# Altium integrated library TI Amplifiers and Linear Difference Amplifier.IntLib: 154 symbols (part 2 of 5)
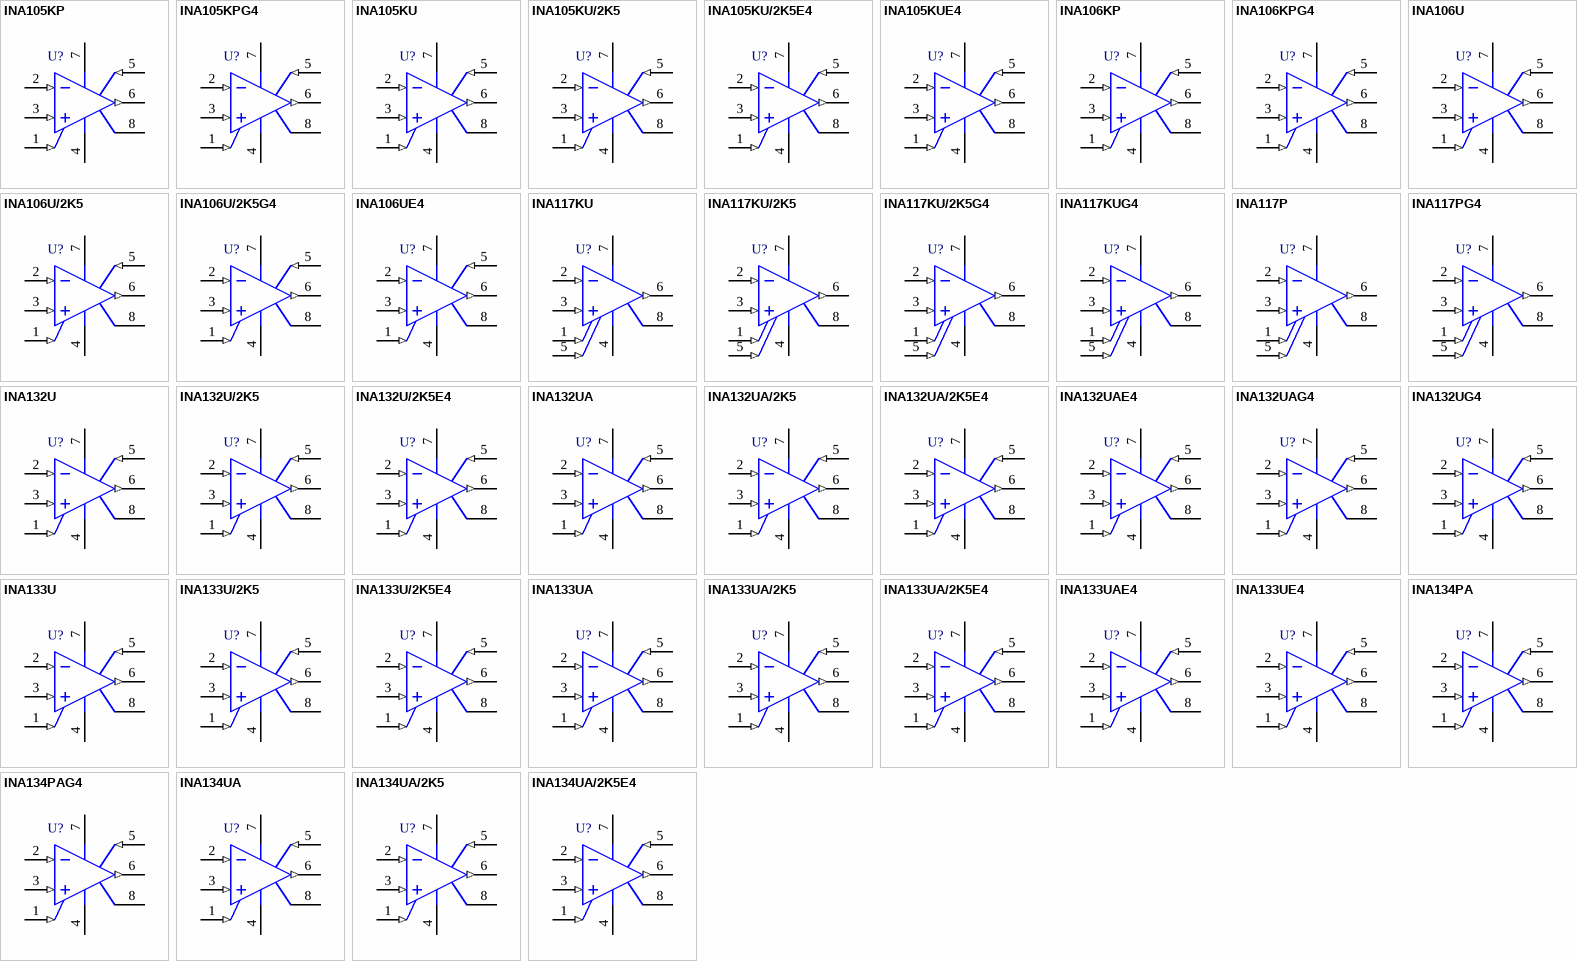
[diagram p6: symbols INA105KP to INA134UA/2K5E4]

## INA133UE4
designator U?
High-Speed, Precision Difference Amplifier, -40 to 85 degC, 8-pin SOIC (D8), Green (RoHS & no Sb/Br); Manufacturer: Texas Instruments; PartNumber: INA133UE4; CMRR(Min)(dB): 80; Gain(V/V): 1; Input Offset (+/-)(Max)(uV): 450; Slew Rate(Typ)(V/us): 5; Vs(Max)(V): 36; DatasheetVersion: SBOS115; PackageVersion: 4040047-3/M, 06/2011; PackageReference: D8; PackageDescription: 8-Pin Plastic Small Outline, Body 4.9 x 3.9 mm, Pitch 1.27 mm; Supplier 1: Digi-Key; Supplier Part Number 1: INA133UE4-ND; Supplier 2: Mouser; Supplier Part Number 2: 595-INA133UE4; Eco-Plan: Green (RoHS & no Sb/Br); Number of Channels: 1; SubFamily: Difference Amplifier; Vs(Min)(V): 5; Mounting Technology: Surface Mount; Code_JEDEC: MS-012; ComponentLink1Description: Manufacturer URL; ComponentLink1URL: http://www.ti.com/; ComponentLink2Description: Datasheet; ComponentLink2URL: http://www.ti.com/general/docs/lit/getliterature.tsp?genericPartNumber=INA133&fileType=pdf; ComponentLink3Description: Package Specification; ComponentLink3URL: http://www.ti.com/litv/pdf/msoi002j
footprint TI-D8_N (SOIC, 8-Leads, Body 5x4mm, Pitch 1.27mm, IPC Medium Density)
footprint TI-D8_L (SOIC, 8-Leads, Body 5x4mm, Pitch 1.27mm, IPC High Density)
footprint TI-D8_M (SOIC, 8-Leads, Body 5x4mm, Pitch 1.27mm, IPC Low Density)
pins: 1 REF (in), 2 IN- (in), 3 IN+ (in), 4 V- (power), 5 SENSE (in), 6 OUT (out), 7 V+ (power), 8 NC

## INA134PA
designator U?
Audio Differential Line Receiver, 0 dB (G=1), -40 to 85 degC, 8-pin DIP (P8), Green (RoHS & no Sb/Br); Manufacturer: Texas Instruments; PartNumber: INA134PA; CMRR(Min)(dB): 74; Gain(V/V): 1; Input Offset (+/-)(Max)(uV): 1000; Slew Rate(Typ)(V/us): 14; SubFamily: Difference Amplifier; Vs(Max)(V): 36; Vs(Min)(V): 8; DatasheetVersion: SBOS071; PackageVersion: 4040082/E, 04/2010; PackageReference: P8; PackageDescription: 8-Pin Plastic In-Line, Body 9.59 x 6.35 mm, Pitch 2.54 mm; Supplier 1: Digi-Key; Supplier Part Number 1: INA134PA-ND; Supplier 2: Farnell; Supplier Part Number 2: 1097403; Supplier 3: Newark; Supplier Part Number 3: 88K1115; Supplier 4: Mouser; Supplier Part Number 4: 595-INA134PA; Eco-Plan: Green (RoHS & no Sb/Br); Number of Channels: 1; Mounting Technology: Through Hole; Code_JEDEC: MS-001; ComponentLink1Description: Manufacturer URL; ComponentLink1URL: http://www.ti.com/; ComponentLink2Description: Datasheet; ComponentLink2URL: http://www.ti.com/general/docs/lit/getliterature.tsp?genericPartNumber=INA134&fileType=pdf; ComponentLink3Description: Package Specification; ComponentLink3URL: http://www.ti.com/litv/pdf/mpdi001b
footprint TI-P8 (DIP, 8-Leads, Body 10.15x6.6mm, Pitch 2.54mm)
pins: 1 REF (in), 2 IN- (in), 3 IN+ (in), 4 V- (power), 5 SENSE (in), 6 OUT (out), 7 V+ (power), 8 NC

## INA134PAG4
designator U?
Audio Differential Line Receiver, 0 dB (G=1), -40 to 85 degC, 8-pin DIP (P8), Green (RoHS & no Sb/Br); Manufacturer: Texas Instruments; PartNumber: INA134PAG4; CMRR(Min)(dB): 74; Gain(V/V): 1; Input Offset (+/-)(Max)(uV): 1000; Slew Rate(Typ)(V/us): 14; SubFamily: Difference Amplifier; Vs(Max)(V): 36; Vs(Min)(V): 8; DatasheetVersion: SBOS071; PackageVersion: 4040082/E, 04/2010; PackageReference: P8; PackageDescription: 8-Pin Plastic In-Line, Body 9.59 x 6.35 mm, Pitch 2.54 mm; Supplier 1: Digi-Key; Supplier Part Number 1: INA134PAG4-ND; Supplier 2: Newark; Supplier Part Number 2: 85K0892; Supplier 3: Mouser; Supplier Part Number 3: 595-INA134PAG4; Eco-Plan: Green (RoHS & no Sb/Br); Number of Channels: 1; Mounting Technology: Through Hole; Code_JEDEC: MS-001; ComponentLink1Description: Manufacturer URL; ComponentLink1URL: http://www.ti.com/; ComponentLink2Description: Datasheet; ComponentLink2URL: http://www.ti.com/general/docs/lit/getliterature.tsp?genericPartNumber=INA134&fileType=pdf; ComponentLink3Description: Package Specification; ComponentLink3URL: http://www.ti.com/litv/pdf/mpdi001b
footprint TI-P8 (DIP, 8-Leads, Body 10.15x6.6mm, Pitch 2.54mm)
pins: 1 REF (in), 2 IN- (in), 3 IN+ (in), 4 V- (power), 5 SENSE (in), 6 OUT (out), 7 V+ (power), 8 NC

## INA134UA
designator U?
Audio Differential Line Receiver, 0 dB (G=1), -40 to 85 degC, 8-pin SOIC (D8), Green (RoHS & no Sb/Br); Manufacturer: Texas Instruments; PartNumber: INA134UA; CMRR(Min)(dB): 74; Gain(V/V): 1; Input Offset (+/-)(Max)(uV): 1000; Slew Rate(Typ)(V/us): 14; SubFamily: Difference Amplifier; Vs(Max)(V): 36; Vs(Min)(V): 8; DatasheetVersion: SBOS071; PackageVersion: 4040047-3/M, 06/2011; PackageReference: D8; PackageDescription: 8-Pin Plastic Small Outline, Body 4.9 x 3.9 mm, Pitch 1.27 mm; Supplier 1: Digi-Key; Supplier Part Number 1: INA134UA-ND; Supplier 2: Newark; Supplier Part Number 2: 80K5904; Supplier 3: Mouser; Supplier Part Number 3: 595-INA134UA; Eco-Plan: Green (RoHS & no Sb/Br); Number of Channels: 1; Mounting Technology: Surface Mount; Code_JEDEC: MS-012; ComponentLink1Description: Manufacturer URL; ComponentLink1URL: http://www.ti.com/; ComponentLink2Description: Datasheet; ComponentLink2URL: http://www.ti.com/general/docs/lit/getliterature.tsp?genericPartNumber=INA134&fileType=pdf; ComponentLink3Description: Package Specification; ComponentLink3URL: http://www.ti.com/litv/pdf/msoi002j
footprint TI-D8_N (SOIC, 8-Leads, Body 5x4mm, Pitch 1.27mm, IPC Medium Density)
footprint TI-D8_L (SOIC, 8-Leads, Body 5x4mm, Pitch 1.27mm, IPC High Density)
footprint TI-D8_M (SOIC, 8-Leads, Body 5x4mm, Pitch 1.27mm, IPC Low Density)
pins: 1 REF (in), 2 IN- (in), 3 IN+ (in), 4 V- (power), 5 SENSE (in), 6 OUT (out), 7 V+ (power), 8 NC

## INA134UA/2K5
designator U?
Audio Differential Line Receiver, 0 dB (G=1), -40 to 85 degC, 8-pin SOIC (D8), Green (RoHS & no Sb/Br); Manufacturer: Texas Instruments; PartNumber: INA134UA/2K5; CMRR(Min)(dB): 74; Gain(V/V): 1; Input Offset (+/-)(Max)(uV): 1000; Slew Rate(Typ)(V/us): 14; SubFamily: Difference Amplifier; Vs(Max)(V): 36; Vs(Min)(V): 8; DatasheetVersion: SBOS071; PackageVersion: 4040047-3/M, 06/2011; PackageReference: D8; PackageDescription: 8-Pin Plastic Small Outline, Body 4.9 x 3.9 mm, Pitch 1.27 mm; Supplier 1: Digi-Key; Supplier Part Number 1: INA134UA/2K5-ND; Supplier 2: Newark; Supplier Part Number 2: 74C9796; Supplier 3: Mouser; Supplier Part Number 3: 595-INA134UA/2K5; Eco-Plan: Green (RoHS & no Sb/Br); Number of Channels: 1; Mounting Technology: Surface Mount; Code_JEDEC: MS-012; ComponentLink1Description: Manufacturer URL; ComponentLink1URL: http://www.ti.com/; ComponentLink2Description: Datasheet; ComponentLink2URL: http://www.ti.com/general/docs/lit/getliterature.tsp?genericPartNumber=INA134&fileType=pdf; ComponentLink3Description: Package Specification; ComponentLink3URL: http://www.ti.com/litv/pdf/msoi002j
footprint TI-D8_N (SOIC, 8-Leads, Body 5x4mm, Pitch 1.27mm, IPC Medium Density)
footprint TI-D8_L (SOIC, 8-Leads, Body 5x4mm, Pitch 1.27mm, IPC High Density)
footprint TI-D8_M (SOIC, 8-Leads, Body 5x4mm, Pitch 1.27mm, IPC Low Density)
pins: 1 REF (in), 2 IN- (in), 3 IN+ (in), 4 V- (power), 5 SENSE (in), 6 OUT (out), 7 V+ (power), 8 NC

## INA134UA/2K5E4
designator U?
Audio Differential Line Receiver, 0 dB (G=1), -40 to 85 degC, 8-pin SOIC (D8), Green (RoHS & no Sb/Br); Manufacturer: Texas Instruments; PartNumber: INA134UA/2K5E4; CMRR(Min)(dB): 74; Gain(V/V): 1; Input Offset (+/-)(Max)(uV): 1000; Slew Rate(Typ)(V/us): 14; SubFamily: Difference Amplifier; Vs(Max)(V): 36; Vs(Min)(V): 8; DatasheetVersion: SBOS071; PackageVersion: 4040047-3/M, 06/2011; PackageReference: D8; PackageDescription: 8-Pin Plastic Small Outline, Body 4.9 x 3.9 mm, Pitch 1.27 mm; Supplier 1: Digi-Key; Supplier Part Number 1: INA134UA/2K5E4-ND; Supplier 2: Mouser; Supplier Part Number 2: 595-INA134UA/2K5E4; Eco-Plan: Green (RoHS & no Sb/Br); Number of Channels: 1; Mounting Technology: Surface Mount; Code_JEDEC: MS-012; ComponentLink1Description: Manufacturer URL; ComponentLink1URL: http://www.ti.com/; ComponentLink2Description: Datasheet; ComponentLink2URL: http://www.ti.com/general/docs/lit/getliterature.tsp?genericPartNumber=INA134&fileType=pdf; ComponentLink3Description: Package Specification; ComponentLink3URL: http://www.ti.com/litv/pdf/msoi002j
footprint TI-D8_N (SOIC, 8-Leads, Body 5x4mm, Pitch 1.27mm, IPC Medium Density)
footprint TI-D8_L (SOIC, 8-Leads, Body 5x4mm, Pitch 1.27mm, IPC High Density)
footprint TI-D8_M (SOIC, 8-Leads, Body 5x4mm, Pitch 1.27mm, IPC Low Density)
pins: 1 REF (in), 2 IN- (in), 3 IN+ (in), 4 V- (power), 5 SENSE (in), 6 OUT (out), 7 V+ (power), 8 NC

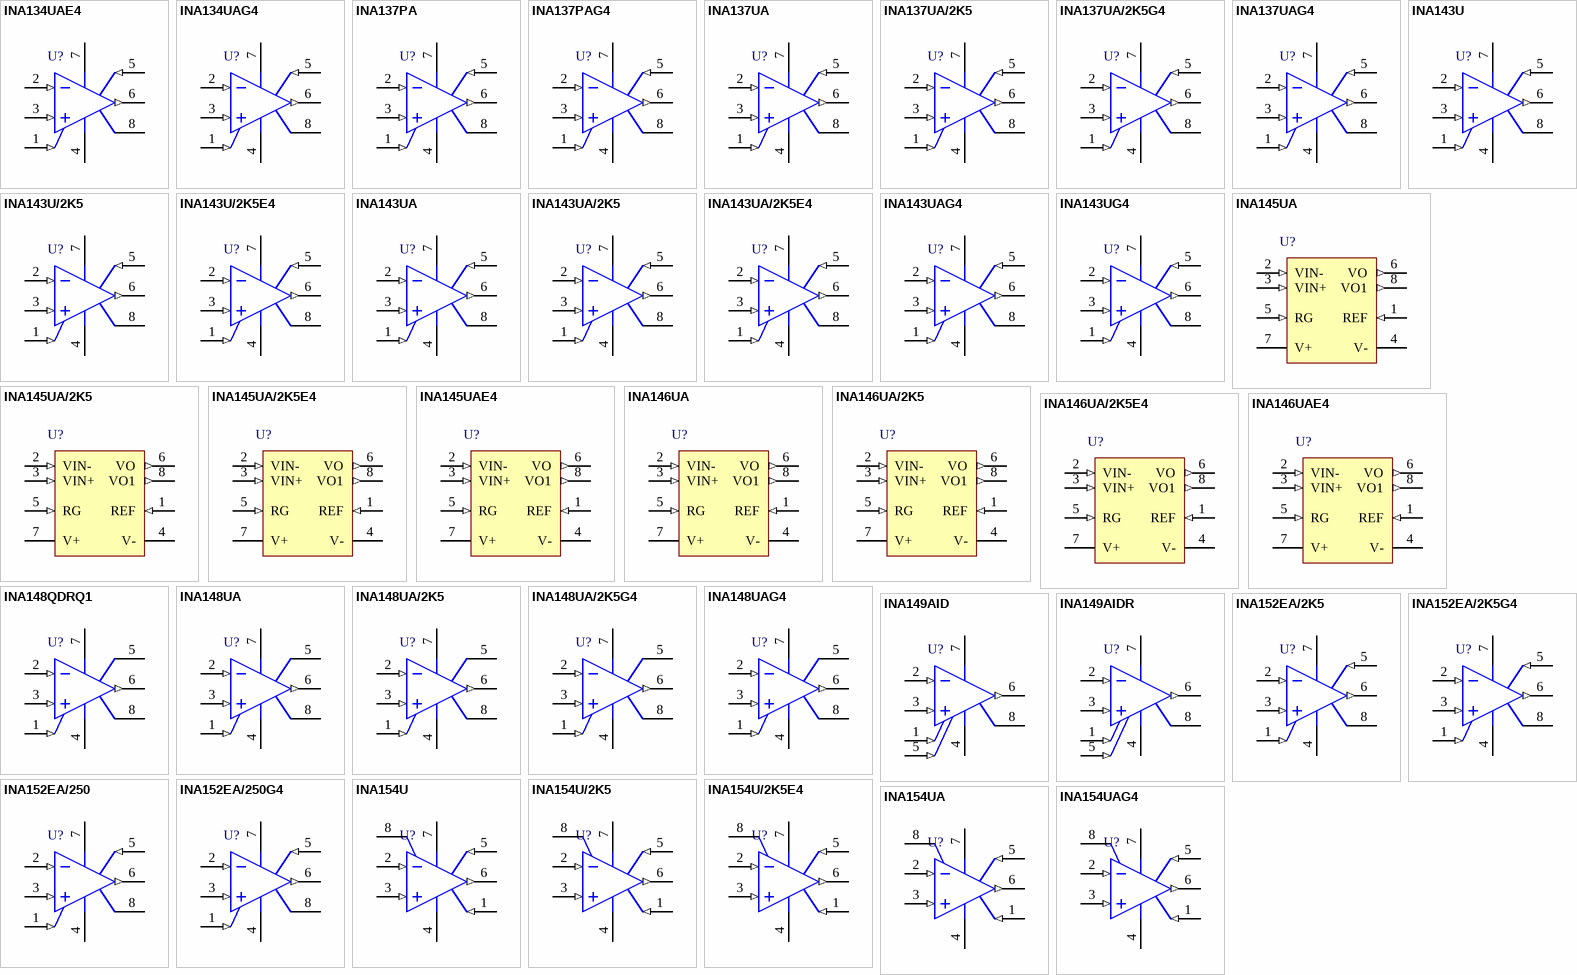
[diagram p1: symbols INA134UAE4 to INA154UAG4]

## INA134UAE4
designator U?
Audio Differential Line Receiver, 0 dB (G=1), -40 to 85 degC, 8-pin SOIC (D8), Green (RoHS & no Sb/Br); Manufacturer: Texas Instruments; PartNumber: INA134UAE4; CMRR(Min)(dB): 74; Gain(V/V): 1; Input Offset (+/-)(Max)(uV): 1000; Slew Rate(Typ)(V/us): 14; SubFamily: Difference Amplifier; Vs(Max)(V): 36; Vs(Min)(V): 8; DatasheetVersion: SBOS071; PackageVersion: 4040047-3/M, 06/2011; PackageReference: D8; PackageDescription: 8-Pin Plastic Small Outline, Body 4.9 x 3.9 mm, Pitch 1.27 mm; Supplier 1: Digi-Key; Supplier Part Number 1: INA134UAE4-ND; Supplier 2: Farnell; Supplier Part Number 2: 1206899; Supplier 3: Newark; Supplier Part Number 3: 97K1923; Supplier 4: Mouser; Supplier Part Number 4: 595-INA134UAE4; Eco-Plan: Green (RoHS & no Sb/Br); Number of Channels: 1; Mounting Technology: Surface Mount; Code_JEDEC: MS-012; ComponentLink1Description: Manufacturer URL; ComponentLink1URL: http://www.ti.com/; ComponentLink2Description: Datasheet; ComponentLink2URL: http://www.ti.com/general/docs/lit/getliterature.tsp?genericPartNumber=INA134&fileType=pdf; ComponentLink3Description: Package Specification; ComponentLink3URL: http://www.ti.com/litv/pdf/msoi002j
footprint TI-D8_N (SOIC, 8-Leads, Body 5x4mm, Pitch 1.27mm, IPC Medium Density)
footprint TI-D8_L (SOIC, 8-Leads, Body 5x4mm, Pitch 1.27mm, IPC High Density)
footprint TI-D8_M (SOIC, 8-Leads, Body 5x4mm, Pitch 1.27mm, IPC Low Density)
pins: 1 REF (in), 2 IN- (in), 3 IN+ (in), 4 V- (power), 5 SENSE (in), 6 OUT (out), 7 V+ (power), 8 NC

## INA134UAG4
designator U?
Audio Differential Line Receiver, 0 dB (G=1), -40 to 85 degC, 8-pin SOIC (D8), Green (RoHS & no Sb/Br); Manufacturer: Texas Instruments; PartNumber: INA134UAG4; CMRR(Min)(dB): 74; Gain(V/V): 1; Input Offset (+/-)(Max)(uV): 1000; Slew Rate(Typ)(V/us): 14; SubFamily: Difference Amplifier; Vs(Max)(V): 36; Vs(Min)(V): 8; DatasheetVersion: SBOS071; PackageVersion: 4040047-3/M, 06/2011; PackageReference: D8; PackageDescription: 8-Pin Plastic Small Outline, Body 4.9 x 3.9 mm, Pitch 1.27 mm; Supplier 1: Digi-Key; Supplier Part Number 1: INA134UAG4-ND; Supplier 2: Mouser; Supplier Part Number 2: 595-INA134UAG4; Eco-Plan: Green (RoHS & no Sb/Br); Number of Channels: 1; Mounting Technology: Surface Mount; Code_JEDEC: MS-012; ComponentLink1Description: Manufacturer URL; ComponentLink1URL: http://www.ti.com/; ComponentLink2Description: Datasheet; ComponentLink2URL: http://www.ti.com/general/docs/lit/getliterature.tsp?genericPartNumber=INA134&fileType=pdf; ComponentLink3Description: Package Specification; ComponentLink3URL: http://www.ti.com/litv/pdf/msoi002j
footprint TI-D8_N (SOIC, 8-Leads, Body 5x4mm, Pitch 1.27mm, IPC Medium Density)
footprint TI-D8_L (SOIC, 8-Leads, Body 5x4mm, Pitch 1.27mm, IPC High Density)
footprint TI-D8_M (SOIC, 8-Leads, Body 5x4mm, Pitch 1.27mm, IPC Low Density)
pins: 1 REF (in), 2 IN- (in), 3 IN+ (in), 4 V- (power), 5 SENSE (in), 6 OUT (out), 7 V+ (power), 8 NC

## INA137PA
designator U?
Audio Differential Line Receiver, +/- 6 dB (G=1/2 or 2), -40 to 85 degC, 8-pin DIP (P8), Green (RoHS & no Sb/Br); Manufacturer: Texas Instruments; PartNumber: INA137PA; CMRR(Min)(dB): 74; Gain(V/V): 0.5; Input Offset (+/-)(Max)(uV): 1000; Number of Channels: 1; Slew Rate(Typ)(V/us): 14; SubFamily: Difference Amplifier; Vs(Max)(V): 36; Vs(Min)(V): 8; DatasheetVersion: SBOS072; PackageVersion: 4040082/E, 04/2010; PackageReference: P8; PackageDescription: 8-Pin Plastic In-Line, Body 9.59 x 6.35 mm, Pitch 2.54 mm; Supplier 1: Digi-Key; Supplier Part Number 1: INA137PA-ND; Supplier 2: Farnell; Supplier Part Number 2: 1097405; Supplier 3: Newark; Supplier Part Number 3: 35C0496; Supplier 4: Mouser; Supplier Part Number 4: 595-INA137PA; Eco-Plan: Green (RoHS & no Sb/Br); Mounting Technology: Through Hole; Code_JEDEC: MS-001; ComponentLink1Description: Manufacturer URL; ComponentLink1URL: http://www.ti.com/; ComponentLink2Description: Datasheet; ComponentLink2URL: http://www.ti.com/general/docs/lit/getliterature.tsp?genericPartNumber=INA137&fileType=pdf; ComponentLink3Description: Package Specification; ComponentLink3URL: http://www.ti.com/litv/pdf/mpdi001b
footprint TI-P8 (DIP, 8-Leads, Body 10.15x6.6mm, Pitch 2.54mm)
pins: 1 REF (in), 2 IN- (in), 3 IN+ (in), 4 V- (power), 5 SENSE (in), 6 OUT (out), 7 V+ (power), 8 NC

## INA137PAG4
designator U?
Audio Differential Line Receiver, +/- 6 dB (G=1/2 or 2), -40 to 85 degC, 8-pin DIP (P8), Green (RoHS & no Sb/Br); Manufacturer: Texas Instruments; PartNumber: INA137PAG4; CMRR(Min)(dB): 74; Gain(V/V): 0.5; Input Offset (+/-)(Max)(uV): 1000; Number of Channels: 1; Slew Rate(Typ)(V/us): 14; SubFamily: Difference Amplifier; Vs(Max)(V): 36; Vs(Min)(V): 8; DatasheetVersion: SBOS072; PackageVersion: 4040082/E, 04/2010; PackageReference: P8; PackageDescription: 8-Pin Plastic In-Line, Body 9.59 x 6.35 mm, Pitch 2.54 mm; Supplier 1: Digi-Key; Supplier Part Number 1: INA137PAG4-ND; Supplier 2: Mouser; Supplier Part Number 2: 595-INA137PAG4; Eco-Plan: Green (RoHS & no Sb/Br); Mounting Technology: Through Hole; Code_JEDEC: MS-001; ComponentLink1Description: Manufacturer URL; ComponentLink1URL: http://www.ti.com/; ComponentLink2Description: Datasheet; ComponentLink2URL: http://www.ti.com/general/docs/lit/getliterature.tsp?genericPartNumber=INA137&fileType=pdf; ComponentLink3Description: Package Specification; ComponentLink3URL: http://www.ti.com/litv/pdf/mpdi001b
footprint TI-P8 (DIP, 8-Leads, Body 10.15x6.6mm, Pitch 2.54mm)
pins: 1 REF (in), 2 IN- (in), 3 IN+ (in), 4 V- (power), 5 SENSE (in), 6 OUT (out), 7 V+ (power), 8 NC

## INA137UA
designator U?
Audio Differential Line Receiver, +/- 6 dB (G=1/2 or 2), -40 to 85 degC, 8-pin SOIC (D8), Green (RoHS & no Sb/Br); Manufacturer: Texas Instruments; PartNumber: INA137UA; CMRR(Min)(dB): 74; Gain(V/V): 0.5; Input Offset (+/-)(Max)(uV): 1000; Number of Channels: 1; Slew Rate(Typ)(V/us): 14; SubFamily: Difference Amplifier; Vs(Max)(V): 36; Vs(Min)(V): 8; DatasheetVersion: SBOS072; PackageVersion: 4040047-3/M, 06/2011; PackageReference: D8; PackageDescription: 8-Pin Plastic Small Outline, Body 4.9 x 3.9 mm, Pitch 1.27 mm; Supplier 1: Digi-Key; Supplier Part Number 1: INA137UA-ND; Supplier 2: Farnell; Supplier Part Number 2: 1212418; Supplier 3: Newark; Supplier Part Number 3: 80K5905; Supplier 4: Mouser; Supplier Part Number 4: 595-INA137UA; Eco-Plan: Green (RoHS & no Sb/Br); Mounting Technology: Surface Mount; Code_JEDEC: MS-012; ComponentLink1Description: Manufacturer URL; ComponentLink1URL: http://www.ti.com/; ComponentLink2Description: Datasheet; ComponentLink2URL: http://www.ti.com/general/docs/lit/getliterature.tsp?genericPartNumber=INA137&fileType=pdf; ComponentLink3Description: Package Specification; ComponentLink3URL: http://www.ti.com/litv/pdf/msoi002j
footprint TI-D8_N (SOIC, 8-Leads, Body 5x4mm, Pitch 1.27mm, IPC Medium Density)
footprint TI-D8_L (SOIC, 8-Leads, Body 5x4mm, Pitch 1.27mm, IPC High Density)
footprint TI-D8_M (SOIC, 8-Leads, Body 5x4mm, Pitch 1.27mm, IPC Low Density)
pins: 1 REF (in), 2 IN- (in), 3 IN+ (in), 4 V- (power), 5 SENSE (in), 6 OUT (out), 7 V+ (power), 8 NC

## INA137UA/2K5
designator U?
Audio Differential Line Receiver, +/- 6 dB (G=1/2 or 2), -40 to 85 degC, 8-pin SOIC (D8), Green (RoHS & no Sb/Br); Manufacturer: Texas Instruments; PartNumber: INA137UA/2K5; CMRR(Min)(dB): 74; Gain(V/V): 0.5; Input Offset (+/-)(Max)(uV): 1000; Number of Channels: 1; Slew Rate(Typ)(V/us): 14; SubFamily: Difference Amplifier; Vs(Max)(V): 36; Vs(Min)(V): 8; DatasheetVersion: SBOS072; PackageVersion: 4040047-3/M, 06/2011; PackageReference: D8; PackageDescription: 8-Pin Plastic Small Outline, Body 4.9 x 3.9 mm, Pitch 1.27 mm; Supplier 1: Digi-Key; Supplier Part Number 1: 296-26060-2-ND; Supplier 2: Digi-Key; Supplier Part Number 2: 296-26060-1-ND; Supplier 3: Digi-Key; Supplier Part Number 3: 296-26060-6-ND; Supplier 4: Newark; Supplier Part Number 4: 74C9797; Supplier 5: Mouser; Supplier Part Number 5: 595-INA137UA/2K5; Eco-Plan: Green (RoHS & no Sb/Br); Mounting Technology: Surface Mount; Code_JEDEC: MS-012; ComponentLink1Description: Manufacturer URL; ComponentLink1URL: http://www.ti.com/; ComponentLink2Description: Datasheet; ComponentLink2URL: http://www.ti.com/general/docs/lit/getliterature.tsp?genericPartNumber=INA137&fileType=pdf; ComponentLink3Description: Package Specification; ComponentLink3URL: http://www.ti.com/litv/pdf/msoi002j
footprint TI-D8_N (SOIC, 8-Leads, Body 5x4mm, Pitch 1.27mm, IPC Medium Density)
footprint TI-D8_L (SOIC, 8-Leads, Body 5x4mm, Pitch 1.27mm, IPC High Density)
footprint TI-D8_M (SOIC, 8-Leads, Body 5x4mm, Pitch 1.27mm, IPC Low Density)
pins: 1 REF (in), 2 IN- (in), 3 IN+ (in), 4 V- (power), 5 SENSE (in), 6 OUT (out), 7 V+ (power), 8 NC

## INA137UA/2K5G4
designator U?
Audio Differential Line Receiver, +/- 6 dB (G=1/2 or 2), -40 to 85 degC, 8-pin SOIC (D8), Green (RoHS & no Sb/Br); Manufacturer: Texas Instruments; PartNumber: INA137UA/2K5G4; CMRR(Min)(dB): 74; Gain(V/V): 0.5; Input Offset (+/-)(Max)(uV): 1000; Number of Channels: 1; Slew Rate(Typ)(V/us): 14; SubFamily: Difference Amplifier; Vs(Max)(V): 36; Vs(Min)(V): 8; DatasheetVersion: SBOS072; PackageVersion: 4040047-3/M, 06/2011; PackageReference: D8; PackageDescription: 8-Pin Plastic Small Outline, Body 4.9 x 3.9 mm, Pitch 1.27 mm; Supplier 1: Digi-Key; Supplier Part Number 1: INA137UA/2K5G4-ND; Supplier 2: Mouser; Supplier Part Number 2: 595-INA137UA/2K5G4; Eco-Plan: Green (RoHS & no Sb/Br); Mounting Technology: Surface Mount; Code_JEDEC: MS-012; ComponentLink1Description: Manufacturer URL; ComponentLink1URL: http://www.ti.com/; ComponentLink2Description: Datasheet; ComponentLink2URL: http://www.ti.com/general/docs/lit/getliterature.tsp?genericPartNumber=INA137&fileType=pdf; ComponentLink3Description: Package Specification; ComponentLink3URL: http://www.ti.com/litv/pdf/msoi002j
footprint TI-D8_N (SOIC, 8-Leads, Body 5x4mm, Pitch 1.27mm, IPC Medium Density)
footprint TI-D8_L (SOIC, 8-Leads, Body 5x4mm, Pitch 1.27mm, IPC High Density)
footprint TI-D8_M (SOIC, 8-Leads, Body 5x4mm, Pitch 1.27mm, IPC Low Density)
pins: 1 REF (in), 2 IN- (in), 3 IN+ (in), 4 V- (power), 5 SENSE (in), 6 OUT (out), 7 V+ (power), 8 NC

## INA137UAG4
designator U?
Audio Differential Line Receiver, +/- 6 dB (G=1/2 or 2), -40 to 85 degC, 8-pin SOIC (D8), Green (RoHS & no Sb/Br); Manufacturer: Texas Instruments; PartNumber: INA137UAG4; CMRR(Min)(dB): 74; Gain(V/V): 0.5; Input Offset (+/-)(Max)(uV): 1000; Number of Channels: 1; Slew Rate(Typ)(V/us): 14; SubFamily: Difference Amplifier; Vs(Max)(V): 36; Vs(Min)(V): 8; DatasheetVersion: SBOS072; PackageVersion: 4040047-3/M, 06/2011; PackageReference: D8; PackageDescription: 8-Pin Plastic Small Outline, Body 4.9 x 3.9 mm, Pitch 1.27 mm; Supplier 1: Digi-Key; Supplier Part Number 1: INA137UAG4-ND; Supplier 2: Mouser; Supplier Part Number 2: 595-INA137UAG4; Eco-Plan: Green (RoHS & no Sb/Br); Mounting Technology: Surface Mount; Code_JEDEC: MS-012; ComponentLink1Description: Manufacturer URL; ComponentLink1URL: http://www.ti.com/; ComponentLink2Description: Datasheet; ComponentLink2URL: http://www.ti.com/general/docs/lit/getliterature.tsp?genericPartNumber=INA137&fileType=pdf; ComponentLink3Description: Package Specification; ComponentLink3URL: http://www.ti.com/litv/pdf/msoi002j
footprint TI-D8_N (SOIC, 8-Leads, Body 5x4mm, Pitch 1.27mm, IPC Medium Density)
footprint TI-D8_L (SOIC, 8-Leads, Body 5x4mm, Pitch 1.27mm, IPC High Density)
footprint TI-D8_M (SOIC, 8-Leads, Body 5x4mm, Pitch 1.27mm, IPC Low Density)
pins: 1 REF (in), 2 IN- (in), 3 IN+ (in), 4 V- (power), 5 SENSE (in), 6 OUT (out), 7 V+ (power), 8 NC

## INA143U
designator U?
High-Speed, Precision, G = 10 or G = 0.1 Difference Amplifier, -40 to 85 degC, 8-pin SOIC (D8), Green (RoHS & no Sb/Br); Manufacturer: Texas Instruments; PartNumber: INA143U; CMRR(Min)(dB): 86; Gain(V/V): 10; Input Offset (+/-)(Max)(uV): 250; Number of Channels: 1; Slew Rate(Typ)(V/us): 5; Vs(Max)(V): 36; Vs(Min)(V): 4.5; DatasheetVersion: SBOS116; PackageVersion: 4040047-3/M, 06/2011; PackageReference: D8; PackageDescription: 8-Pin Plastic Small Outline, Body 4.9 x 3.9 mm, Pitch 1.27 mm; Supplier 1: Digi-Key; Supplier Part Number 1: INA143U-ND; Supplier 2: Farnell; Supplier Part Number 2: 1459428; Supplier 3: Newark; Supplier Part Number 3: 61M6792; Supplier 4: Newark; Supplier Part Number 4: 74C9802; Supplier 5: Mouser; Supplier Part Number 5: 595-INA143U; Eco-Plan: Green (RoHS & no Sb/Br); SubFamily: Difference Amplifier; Mounting Technology: Surface Mount; Code_JEDEC: MS-012; ComponentLink1Description: Manufacturer URL; ComponentLink1URL: http://www.ti.com/; ComponentLink2Description: Datasheet; ComponentLink2URL: http://www.ti.com/general/docs/lit/getliterature.tsp?genericPartNumber=INA143&fileType=pdf; ComponentLink3Description: Package Specification; ComponentLink3URL: http://www.ti.com/litv/pdf/msoi002j
footprint TI-D8_N (SOIC, 8-Leads, Body 5x4mm, Pitch 1.27mm, IPC Medium Density)
footprint TI-D8_L (SOIC, 8-Leads, Body 5x4mm, Pitch 1.27mm, IPC High Density)
footprint TI-D8_M (SOIC, 8-Leads, Body 5x4mm, Pitch 1.27mm, IPC Low Density)
pins: 1 REF (in), 2 IN- (in), 3 IN+ (in), 4 V- (power), 5 SENSE (in), 6 OUTPUT (out), 7 V+ (power), 8 NC

## INA143U/2K5
designator U?
High-Speed, Precision, G = 10 or G = 0.1 Difference Amplifier, -40 to 85 degC, 8-pin SOIC (D8), Green (RoHS & no Sb/Br); Manufacturer: Texas Instruments; PartNumber: INA143U/2K5; CMRR(Min)(dB): 86; Gain(V/V): 10; Input Offset (+/-)(Max)(uV): 250; Number of Channels: 1; Slew Rate(Typ)(V/us): 5; Vs(Max)(V): 36; Vs(Min)(V): 4.5; DatasheetVersion: SBOS116; PackageVersion: 4040047-3/M, 06/2011; PackageReference: D8; PackageDescription: 8-Pin Plastic Small Outline, Body 4.9 x 3.9 mm, Pitch 1.27 mm; Supplier 1: Digi-Key; Supplier Part Number 1: INA143U/2K5-ND; Supplier 2: Mouser; Supplier Part Number 2: 595-INA143U/2K5; Eco-Plan: Green (RoHS & no Sb/Br); SubFamily: Difference Amplifier; Mounting Technology: Surface Mount; Code_JEDEC: MS-012; ComponentLink1Description: Manufacturer URL; ComponentLink1URL: http://www.ti.com/; ComponentLink2Description: Datasheet; ComponentLink2URL: http://www.ti.com/general/docs/lit/getliterature.tsp?genericPartNumber=INA143&fileType=pdf; ComponentLink3Description: Package Specification; ComponentLink3URL: http://www.ti.com/litv/pdf/msoi002j
footprint TI-D8_N (SOIC, 8-Leads, Body 5x4mm, Pitch 1.27mm, IPC Medium Density)
footprint TI-D8_L (SOIC, 8-Leads, Body 5x4mm, Pitch 1.27mm, IPC High Density)
footprint TI-D8_M (SOIC, 8-Leads, Body 5x4mm, Pitch 1.27mm, IPC Low Density)
pins: 1 REF (in), 2 IN- (in), 3 IN+ (in), 4 V- (power), 5 SENSE (in), 6 OUTPUT (out), 7 V+ (power), 8 NC

## INA143U/2K5E4
designator U?
High-Speed, Precision, G = 10 or G = 0.1 Difference Amplifier, -40 to 85 degC, 8-pin SOIC (D8), Green (RoHS & no Sb/Br); Manufacturer: Texas Instruments; PartNumber: INA143U/2K5E4; CMRR(Min)(dB): 86; Gain(V/V): 10; Input Offset (+/-)(Max)(uV): 250; Number of Channels: 1; Slew Rate(Typ)(V/us): 5; Vs(Max)(V): 36; Vs(Min)(V): 4.5; DatasheetVersion: SBOS116; PackageVersion: 4040047-3/M, 06/2011; PackageReference: D8; PackageDescription: 8-Pin Plastic Small Outline, Body 4.9 x 3.9 mm, Pitch 1.27 mm; Supplier 1: Digi-Key; Supplier Part Number 1: INA143U/2K5E4-ND; Supplier 2: Mouser; Supplier Part Number 2: 595-INA143U/2K5E4; Eco-Plan: Green (RoHS & no Sb/Br); SubFamily: Difference Amplifier; Mounting Technology: Surface Mount; Code_JEDEC: MS-012; ComponentLink1Description: Manufacturer URL; ComponentLink1URL: http://www.ti.com/; ComponentLink2Description: Datasheet; ComponentLink2URL: http://www.ti.com/general/docs/lit/getliterature.tsp?genericPartNumber=INA143&fileType=pdf; ComponentLink3Description: Package Specification; ComponentLink3URL: http://www.ti.com/litv/pdf/msoi002j
footprint TI-D8_N (SOIC, 8-Leads, Body 5x4mm, Pitch 1.27mm, IPC Medium Density)
footprint TI-D8_L (SOIC, 8-Leads, Body 5x4mm, Pitch 1.27mm, IPC High Density)
footprint TI-D8_M (SOIC, 8-Leads, Body 5x4mm, Pitch 1.27mm, IPC Low Density)
pins: 1 REF (in), 2 IN- (in), 3 IN+ (in), 4 V- (power), 5 SENSE (in), 6 OUTPUT (out), 7 V+ (power), 8 NC

## INA143UA
designator U?
High-Speed, Precision, G = 10 or G = 0.1 Difference Amplifier, -40 to 85 degC, 8-pin SOIC (D8), Green (RoHS & no Sb/Br); Manufacturer: Texas Instruments; PartNumber: INA143UA; CMRR(Min)(dB): 80; Gain(V/V): 10; Input Offset (+/-)(Max)(uV): 500; Number of Channels: 1; Slew Rate(Typ)(V/us): 5; Vs(Max)(V): 36; Vs(Min)(V): 4.5; DatasheetVersion: SBOS116; PackageVersion: 4040047-3/M, 06/2011; PackageReference: D8; PackageDescription: 8-Pin Plastic Small Outline, Body 4.9 x 3.9 mm, Pitch 1.27 mm; Supplier 1: Digi-Key; Supplier Part Number 1: INA143UA-ND; Supplier 2: Farnell; Supplier Part Number 2: 1097461; Supplier 3: Newark; Supplier Part Number 3: 35C0497; Supplier 4: Mouser; Supplier Part Number 4: 595-INA143UA; Eco-Plan: Green (RoHS & no Sb/Br); SubFamily: Difference Amplifier; Mounting Technology: Surface Mount; Code_JEDEC: MS-012; ComponentLink1Description: Manufacturer URL; ComponentLink1URL: http://www.ti.com/; ComponentLink2Description: Datasheet; ComponentLink2URL: http://www.ti.com/general/docs/lit/getliterature.tsp?genericPartNumber=INA143&fileType=pdf; ComponentLink3Description: Package Specification; ComponentLink3URL: http://www.ti.com/litv/pdf/msoi002j
footprint TI-D8_N (SOIC, 8-Leads, Body 5x4mm, Pitch 1.27mm, IPC Medium Density)
footprint TI-D8_L (SOIC, 8-Leads, Body 5x4mm, Pitch 1.27mm, IPC High Density)
footprint TI-D8_M (SOIC, 8-Leads, Body 5x4mm, Pitch 1.27mm, IPC Low Density)
pins: 1 REF (in), 2 IN- (in), 3 IN+ (in), 4 V- (power), 5 SENSE (in), 6 OUTPUT (out), 7 V+ (power), 8 NC

## INA143UA/2K5
designator U?
High-Speed, Precision, G = 10 or G = 0.1 Difference Amplifier, -40 to 85 degC, 8-pin SOIC (D8), Green (RoHS & no Sb/Br); Manufacturer: Texas Instruments; PartNumber: INA143UA/2K5; CMRR(Min)(dB): 80; Gain(V/V): 10; Input Offset (+/-)(Max)(uV): 500; Number of Channels: 1; Slew Rate(Typ)(V/us): 5; Vs(Max)(V): 36; Vs(Min)(V): 4.5; DatasheetVersion: SBOS116; PackageVersion: 4040047-3/M, 06/2011; PackageReference: D8; PackageDescription: 8-Pin Plastic Small Outline, Body 4.9 x 3.9 mm, Pitch 1.27 mm; Supplier 1: Digi-Key; Supplier Part Number 1: INA143UA/2K5-ND; Supplier 2: Newark; Supplier Part Number 2: 74C9804; Supplier 3: Mouser; Supplier Part Number 3: 595-INA143UA/2K5; Eco-Plan: Green (RoHS & no Sb/Br); SubFamily: Difference Amplifier; Mounting Technology: Surface Mount; Code_JEDEC: MS-012; ComponentLink1Description: Manufacturer URL; ComponentLink1URL: http://www.ti.com/; ComponentLink2Description: Datasheet; ComponentLink2URL: http://www.ti.com/general/docs/lit/getliterature.tsp?genericPartNumber=INA143&fileType=pdf; ComponentLink3Description: Package Specification; ComponentLink3URL: http://www.ti.com/litv/pdf/msoi002j
footprint TI-D8_N (SOIC, 8-Leads, Body 5x4mm, Pitch 1.27mm, IPC Medium Density)
footprint TI-D8_L (SOIC, 8-Leads, Body 5x4mm, Pitch 1.27mm, IPC High Density)
footprint TI-D8_M (SOIC, 8-Leads, Body 5x4mm, Pitch 1.27mm, IPC Low Density)
pins: 1 REF (in), 2 IN- (in), 3 IN+ (in), 4 V- (power), 5 SENSE (in), 6 OUTPUT (out), 7 V+ (power), 8 NC

## INA143UA/2K5E4
designator U?
High-Speed, Precision, G = 10 or G = 0.1 Difference Amplifier, -40 to 85 degC, 8-pin SOIC (D8), Green (RoHS & no Sb/Br); Manufacturer: Texas Instruments; PartNumber: INA143UA/2K5E4; CMRR(Min)(dB): 80; Gain(V/V): 10; Input Offset (+/-)(Max)(uV): 500; Number of Channels: 1; Slew Rate(Typ)(V/us): 5; Vs(Max)(V): 36; Vs(Min)(V): 4.5; DatasheetVersion: SBOS116; PackageVersion: 4040047-3/M, 06/2011; PackageReference: D8; PackageDescription: 8-Pin Plastic Small Outline, Body 4.9 x 3.9 mm, Pitch 1.27 mm; Supplier 1: Digi-Key; Supplier Part Number 1: INA143UA/2K5E4-ND; Supplier 2: Newark; Supplier Part Number 2: 28M6082; Supplier 3: Mouser; Supplier Part Number 3: 595-INA143UA/2K5E4; Eco-Plan: Green (RoHS & no Sb/Br); SubFamily: Difference Amplifier; Mounting Technology: Surface Mount; Code_JEDEC: MS-012; ComponentLink1Description: Manufacturer URL; ComponentLink1URL: http://www.ti.com/; ComponentLink2Description: Datasheet; ComponentLink2URL: http://www.ti.com/general/docs/lit/getliterature.tsp?genericPartNumber=INA143&fileType=pdf; ComponentLink3Description: Package Specification; ComponentLink3URL: http://www.ti.com/litv/pdf/msoi002j
footprint TI-D8_N (SOIC, 8-Leads, Body 5x4mm, Pitch 1.27mm, IPC Medium Density)
footprint TI-D8_L (SOIC, 8-Leads, Body 5x4mm, Pitch 1.27mm, IPC High Density)
footprint TI-D8_M (SOIC, 8-Leads, Body 5x4mm, Pitch 1.27mm, IPC Low Density)
pins: 1 REF (in), 2 IN- (in), 3 IN+ (in), 4 V- (power), 5 SENSE (in), 6 OUTPUT (out), 7 V+ (power), 8 NC

## INA143UAG4
designator U?
High-Speed, Precision, G = 10 or G = 0.1 Difference Amplifier, -40 to 85 degC, 8-pin SOIC (D8), Green (RoHS & no Sb/Br); Manufacturer: Texas Instruments; PartNumber: INA143UAG4; CMRR(Min)(dB): 80; Gain(V/V): 10; Input Offset (+/-)(Max)(uV): 500; Number of Channels: 1; Slew Rate(Typ)(V/us): 5; Vs(Max)(V): 36; Vs(Min)(V): 4.5; DatasheetVersion: SBOS116; PackageVersion: 4040047-3/M, 06/2011; PackageReference: D8; PackageDescription: 8-Pin Plastic Small Outline, Body 4.9 x 3.9 mm, Pitch 1.27 mm; Supplier 1: Digi-Key; Supplier Part Number 1: INA143UAG4-ND; Supplier 2: Mouser; Supplier Part Number 2: 595-INA143UAG4; Eco-Plan: Green (RoHS & no Sb/Br); SubFamily: Difference Amplifier; Mounting Technology: Surface Mount; Code_JEDEC: MS-012; ComponentLink1Description: Manufacturer URL; ComponentLink1URL: http://www.ti.com/; ComponentLink2Description: Datasheet; ComponentLink2URL: http://www.ti.com/general/docs/lit/getliterature.tsp?genericPartNumber=INA143&fileType=pdf; ComponentLink3Description: Package Specification; ComponentLink3URL: http://www.ti.com/litv/pdf/msoi002j
footprint TI-D8_N (SOIC, 8-Leads, Body 5x4mm, Pitch 1.27mm, IPC Medium Density)
footprint TI-D8_L (SOIC, 8-Leads, Body 5x4mm, Pitch 1.27mm, IPC High Density)
footprint TI-D8_M (SOIC, 8-Leads, Body 5x4mm, Pitch 1.27mm, IPC Low Density)
pins: 1 REF (in), 2 IN- (in), 3 IN+ (in), 4 V- (power), 5 SENSE (in), 6 OUTPUT (out), 7 V+ (power), 8 NC

## INA143UG4
designator U?
High-Speed, Precision, G = 10 or G = 0.1 Difference Amplifier, -40 to 85 degC, 8-pin SOIC (D8), Green (RoHS & no Sb/Br); Manufacturer: Texas Instruments; PartNumber: INA143UG4; CMRR(Min)(dB): 86; Gain(V/V): 10; Input Offset (+/-)(Max)(uV): 250; Number of Channels: 1; Slew Rate(Typ)(V/us): 5; Vs(Max)(V): 36; Vs(Min)(V): 4.5; DatasheetVersion: SBOS116; PackageVersion: 4040047-3/M, 06/2011; PackageReference: D8; PackageDescription: 8-Pin Plastic Small Outline, Body 4.9 x 3.9 mm, Pitch 1.27 mm; Supplier 1: Digi-Key; Supplier Part Number 1: INA143UG4-ND; Supplier 2: Newark; Supplier Part Number 2: 18M2386; Supplier 3: Mouser; Supplier Part Number 3: 595-INA143UG4; Eco-Plan: Green (RoHS & no Sb/Br); SubFamily: Difference Amplifier; Mounting Technology: Surface Mount; Code_JEDEC: MS-012; ComponentLink1Description: Manufacturer URL; ComponentLink1URL: http://www.ti.com/; ComponentLink2Description: Datasheet; ComponentLink2URL: http://www.ti.com/general/docs/lit/getliterature.tsp?genericPartNumber=INA143&fileType=pdf; ComponentLink3Description: Package Specification; ComponentLink3URL: http://www.ti.com/litv/pdf/msoi002j
footprint TI-D8_N (SOIC, 8-Leads, Body 5x4mm, Pitch 1.27mm, IPC Medium Density)
footprint TI-D8_L (SOIC, 8-Leads, Body 5x4mm, Pitch 1.27mm, IPC High Density)
footprint TI-D8_M (SOIC, 8-Leads, Body 5x4mm, Pitch 1.27mm, IPC Low Density)
pins: 1 REF (in), 2 IN- (in), 3 IN+ (in), 4 V- (power), 5 SENSE (in), 6 OUTPUT (out), 7 V+ (power), 8 NC

## INA145UA
designator U?
Programmable Gain Difference Amplifier, -40 to 85 degC, 8-pin SOIC (D8), Green (RoHS & no Sb/Br); Manufacturer: Texas Instruments; PartNumber: INA145UA; CMRR(Min)(dB): 76; Gain(V/V): 1 to 1000; Input Offset (+/-)(Max)(uV): 1000; Number of Channels: 1; Slew Rate(Typ)(V/us): 0.45; Vs(Max)(V): 36; Vs(Min)(V): 4.5; DatasheetVersion: SBOS120; PackageVersion: 4040047-3/M, 06/2011; PackageReference: D8; PackageDescription: 8-Pin Plastic Small Outline, Body 4.9 x 3.9 mm, Pitch 1.27 mm; Supplier 1: Digi-Key; Supplier Part Number 1: INA145UA-ND; Supplier 2: Farnell; Supplier Part Number 2: 1648649; Supplier 3: Newark; Supplier Part Number 3: 35C0498; Supplier 4: Mouser; Supplier Part Number 4: 595-INA145UA; Eco-Plan: Green (RoHS & no Sb/Br); SubFamily: Difference Amplifier; Mounting Technology: Surface Mount; Code_JEDEC: MS-012; ComponentLink1Description: Manufacturer URL; ComponentLink1URL: http://www.ti.com/; ComponentLink2Description: Datasheet; ComponentLink2URL: http://www.ti.com/general/docs/lit/getliterature.tsp?genericPartNumber=INA145&fileType=pdf; ComponentLink3Description: Package Specification; ComponentLink3URL: http://www.ti.com/litv/pdf/msoi002j
footprint TI-D8_N (SOIC, 8-Leads, Body 5x4mm, Pitch 1.27mm, IPC Medium Density)
footprint TI-D8_L (SOIC, 8-Leads, Body 5x4mm, Pitch 1.27mm, IPC High Density)
footprint TI-D8_M (SOIC, 8-Leads, Body 5x4mm, Pitch 1.27mm, IPC Low Density)
pins: 1 REF (in), 2 VIN- (in), 3 VIN+ (in), 4 V- (power), 5 RG (in), 6 VO (out), 7 V+ (power), 8 VO1 (out)

## INA145UA/2K5
designator U?
Programmable Gain Difference Amplifier, -40 to 85 degC, 8-pin SOIC (D8), Green (RoHS & no Sb/Br); Manufacturer: Texas Instruments; PartNumber: INA145UA/2K5; CMRR(Min)(dB): 76; Gain(V/V): 1 to 1000; Input Offset (+/-)(Max)(uV): 1000; Number of Channels: 1; Slew Rate(Typ)(V/us): 0.45; Vs(Max)(V): 36; Vs(Min)(V): 4.5; DatasheetVersion: SBOS120; PackageVersion: 4040047-3/M, 06/2011; PackageReference: D8; PackageDescription: 8-Pin Plastic Small Outline, Body 4.9 x 3.9 mm, Pitch 1.27 mm; Supplier 1: Digi-Key; Supplier Part Number 1: INA145UA/2K5-ND; Supplier 2: Mouser; Supplier Part Number 2: 595-INA145UA/2K5; Eco-Plan: Green (RoHS & no Sb/Br); SubFamily: Difference Amplifier; Mounting Technology: Surface Mount; Code_JEDEC: MS-012; ComponentLink1Description: Manufacturer URL; ComponentLink1URL: http://www.ti.com/; ComponentLink2Description: Datasheet; ComponentLink2URL: http://www.ti.com/general/docs/lit/getliterature.tsp?genericPartNumber=INA145&fileType=pdf; ComponentLink3Description: Package Specification; ComponentLink3URL: http://www.ti.com/litv/pdf/msoi002j
footprint TI-D8_N (SOIC, 8-Leads, Body 5x4mm, Pitch 1.27mm, IPC Medium Density)
footprint TI-D8_L (SOIC, 8-Leads, Body 5x4mm, Pitch 1.27mm, IPC High Density)
footprint TI-D8_M (SOIC, 8-Leads, Body 5x4mm, Pitch 1.27mm, IPC Low Density)
pins: 1 REF (in), 2 VIN- (in), 3 VIN+ (in), 4 V- (power), 5 RG (in), 6 VO (out), 7 V+ (power), 8 VO1 (out)

## INA145UA/2K5E4
designator U?
Programmable Gain Difference Amplifier, -40 to 85 degC, 8-pin SOIC (D8), Green (RoHS & no Sb/Br); Manufacturer: Texas Instruments; PartNumber: INA145UA/2K5E4; CMRR(Min)(dB): 76; Gain(V/V): 1 to 1000; Input Offset (+/-)(Max)(uV): 1000; Number of Channels: 1; Slew Rate(Typ)(V/us): 0.45; Vs(Max)(V): 36; Vs(Min)(V): 4.5; DatasheetVersion: SBOS120; PackageVersion: 4040047-3/M, 06/2011; PackageReference: D8; PackageDescription: 8-Pin Plastic Small Outline, Body 4.9 x 3.9 mm, Pitch 1.27 mm; Supplier 1: Digi-Key; Supplier Part Number 1: INA145UA/2K5E4-ND; Supplier 2: Mouser; Supplier Part Number 2: 595-INA145UA/2K5E4; Eco-Plan: Green (RoHS & no Sb/Br); SubFamily: Difference Amplifier; Mounting Technology: Surface Mount; Code_JEDEC: MS-012; ComponentLink1Description: Manufacturer URL; ComponentLink1URL: http://www.ti.com/; ComponentLink2Description: Datasheet; ComponentLink2URL: http://www.ti.com/general/docs/lit/getliterature.tsp?genericPartNumber=INA145&fileType=pdf; ComponentLink3Description: Package Specification; ComponentLink3URL: http://www.ti.com/litv/pdf/msoi002j
footprint TI-D8_N (SOIC, 8-Leads, Body 5x4mm, Pitch 1.27mm, IPC Medium Density)
footprint TI-D8_L (SOIC, 8-Leads, Body 5x4mm, Pitch 1.27mm, IPC High Density)
footprint TI-D8_M (SOIC, 8-Leads, Body 5x4mm, Pitch 1.27mm, IPC Low Density)
pins: 1 REF (in), 2 VIN- (in), 3 VIN+ (in), 4 V- (power), 5 RG (in), 6 VO (out), 7 V+ (power), 8 VO1 (out)

## INA145UAE4
designator U?
Programmable Gain Difference Amplifier, -40 to 85 degC, 8-pin SOIC (D8), Green (RoHS & no Sb/Br); Manufacturer: Texas Instruments; PartNumber: INA145UAE4; CMRR(Min)(dB): 76; Gain(V/V): 1 to 1000; Input Offset (+/-)(Max)(uV): 1000; Number of Channels: 1; Slew Rate(Typ)(V/us): 0.45; Vs(Max)(V): 36; Vs(Min)(V): 4.5; DatasheetVersion: SBOS120; PackageVersion: 4040047-3/M, 06/2011; PackageReference: D8; PackageDescription: 8-Pin Plastic Small Outline, Body 4.9 x 3.9 mm, Pitch 1.27 mm; Supplier 1: Digi-Key; Supplier Part Number 1: INA145UAE4-ND; Supplier 2: Mouser; Supplier Part Number 2: 595-INA145UAE4; Eco-Plan: Green (RoHS & no Sb/Br); SubFamily: Difference Amplifier; Mounting Technology: Surface Mount; Code_JEDEC: MS-012; ComponentLink1Description: Manufacturer URL; ComponentLink1URL: http://www.ti.com/; ComponentLink2Description: Datasheet; ComponentLink2URL: http://www.ti.com/general/docs/lit/getliterature.tsp?genericPartNumber=INA145&fileType=pdf; ComponentLink3Description: Package Specification; ComponentLink3URL: http://www.ti.com/litv/pdf/msoi002j
footprint TI-D8_N (SOIC, 8-Leads, Body 5x4mm, Pitch 1.27mm, IPC Medium Density)
footprint TI-D8_L (SOIC, 8-Leads, Body 5x4mm, Pitch 1.27mm, IPC High Density)
footprint TI-D8_M (SOIC, 8-Leads, Body 5x4mm, Pitch 1.27mm, IPC Low Density)
pins: 1 REF (in), 2 VIN- (in), 3 VIN+ (in), 4 V- (power), 5 RG (in), 6 VO (out), 7 V+ (power), 8 VO1 (out)

## INA146UA
designator U?
High-Voltage, Programmable Gain Difference Amplifier, -40 to 85 degC, 8-pin SOIC (D8), Green (RoHS & no Sb/Br); Manufacturer: Texas Instruments; PartNumber: INA146UA; CMRR(Min)(dB): 70; Gain(V/V): 0.1 to 100; Input Offset (+/-)(Max)(uV): 5000; Number of Channels: 1; Slew Rate(Typ)(V/us): 0.45; Vs(Max)(V): 36; Vs(Min)(V): 2.7; DatasheetVersion: SBOS109; PackageVersion: 4040047-3/M, 06/2011; PackageReference: D8; PackageDescription: 8-Pin Plastic Small Outline, Body 4.9 x 3.9 mm, Pitch 1.27 mm; Supplier 1: Digi-Key; Supplier Part Number 1: INA146UA-ND; Supplier 2: Farnell; Supplier Part Number 2: 1097463; Supplier 3: Newark; Supplier Part Number 3: 74K3815; Supplier 4: Mouser; Supplier Part Number 4: 595-INA146UA; Eco-Plan: Green (RoHS & no Sb/Br); SubFamily: Difference Amplifier; Mounting Technology: Surface Mount; Code_JEDEC: MS-012; ComponentLink1Description: Manufacturer URL; ComponentLink1URL: http://www.ti.com/; ComponentLink2Description: Datasheet; ComponentLink2URL: http://www.ti.com/general/docs/lit/getliterature.tsp?genericPartNumber=INA146&fileType=pdf; ComponentLink3Description: Package Specification; ComponentLink3URL: http://www.ti.com/litv/pdf/msoi002j
footprint TI-D8_N (SOIC, 8-Leads, Body 5x4mm, Pitch 1.27mm, IPC Medium Density)
footprint TI-D8_L (SOIC, 8-Leads, Body 5x4mm, Pitch 1.27mm, IPC High Density)
footprint TI-D8_M (SOIC, 8-Leads, Body 5x4mm, Pitch 1.27mm, IPC Low Density)
pins: 1 REF (in), 2 VIN- (in), 3 VIN+ (in), 4 V- (power), 5 RG (in), 6 VO (out), 7 V+ (power), 8 VO1 (out)

## INA146UA/2K5
designator U?
High-Voltage, Programmable Gain Difference Amplifier, -40 to 85 degC, 8-pin SOIC (D8), Green (RoHS & no Sb/Br); Manufacturer: Texas Instruments; PartNumber: INA146UA/2K5; CMRR(Min)(dB): 70; Gain(V/V): 0.1 to 100; Input Offset (+/-)(Max)(uV): 5000; Number of Channels: 1; Slew Rate(Typ)(V/us): 0.45; Vs(Max)(V): 36; Vs(Min)(V): 2.7; DatasheetVersion: SBOS109; PackageVersion: 4040047-3/M, 06/2011; PackageReference: D8; PackageDescription: 8-Pin Plastic Small Outline, Body 4.9 x 3.9 mm, Pitch 1.27 mm; Supplier 1: Digi-Key; Supplier Part Number 1: INA146UA/2K5-ND; Supplier 2: Newark; Supplier Part Number 2: 74C9806; Supplier 3: Mouser; Supplier Part Number 3: 595-INA146UA/2K5; Eco-Plan: Green (RoHS & no Sb/Br); SubFamily: Difference Amplifier; Mounting Technology: Surface Mount; Code_JEDEC: MS-012; ComponentLink1Description: Manufacturer URL; ComponentLink1URL: http://www.ti.com/; ComponentLink2Description: Datasheet; ComponentLink2URL: http://www.ti.com/general/docs/lit/getliterature.tsp?genericPartNumber=INA146&fileType=pdf; ComponentLink3Description: Package Specification; ComponentLink3URL: http://www.ti.com/litv/pdf/msoi002j
footprint TI-D8_N (SOIC, 8-Leads, Body 5x4mm, Pitch 1.27mm, IPC Medium Density)
footprint TI-D8_L (SOIC, 8-Leads, Body 5x4mm, Pitch 1.27mm, IPC High Density)
footprint TI-D8_M (SOIC, 8-Leads, Body 5x4mm, Pitch 1.27mm, IPC Low Density)
pins: 1 REF (in), 2 VIN- (in), 3 VIN+ (in), 4 V- (power), 5 RG (in), 6 VO (out), 7 V+ (power), 8 VO1 (out)

## INA146UA/2K5E4
designator U?
High-Voltage, Programmable Gain Difference Amplifier, -40 to 85 degC, 8-pin SOIC (D8), Green (RoHS & no Sb/Br); Manufacturer: Texas Instruments; PartNumber: INA146UA/2K5E4; CMRR(Min)(dB): 70; Gain(V/V): 0.1 to 100; Input Offset (+/-)(Max)(uV): 5000; Number of Channels: 1; Slew Rate(Typ)(V/us): 0.45; Vs(Max)(V): 36; Vs(Min)(V): 2.7; DatasheetVersion: SBOS109; PackageVersion: 4040047-3/M, 06/2011; PackageReference: D8; PackageDescription: 8-Pin Plastic Small Outline, Body 4.9 x 3.9 mm, Pitch 1.27 mm; Supplier 1: Digi-Key; Supplier Part Number 1: INA146UA/2K5E4-ND; Supplier 2: Mouser; Supplier Part Number 2: 595-INA146UA/2K5E4; Eco-Plan: Green (RoHS & no Sb/Br); SubFamily: Difference Amplifier; Mounting Technology: Surface Mount; Code_JEDEC: MS-012; ComponentLink1Description: Manufacturer URL; ComponentLink1URL: http://www.ti.com/; ComponentLink2Description: Datasheet; ComponentLink2URL: http://www.ti.com/general/docs/lit/getliterature.tsp?genericPartNumber=INA146&fileType=pdf; ComponentLink3Description: Package Specification; ComponentLink3URL: http://www.ti.com/litv/pdf/msoi002j
footprint TI-D8_N (SOIC, 8-Leads, Body 5x4mm, Pitch 1.27mm, IPC Medium Density)
footprint TI-D8_L (SOIC, 8-Leads, Body 5x4mm, Pitch 1.27mm, IPC High Density)
footprint TI-D8_M (SOIC, 8-Leads, Body 5x4mm, Pitch 1.27mm, IPC Low Density)
pins: 1 REF (in), 2 VIN- (in), 3 VIN+ (in), 4 V- (power), 5 RG (in), 6 VO (out), 7 V+ (power), 8 VO1 (out)

## INA146UAE4
designator U?
High-Voltage, Programmable Gain Difference Amplifier, -40 to 85 degC, 8-pin SOIC (D8), Green (RoHS & no Sb/Br); Manufacturer: Texas Instruments; PartNumber: INA146UAE4; CMRR(Min)(dB): 70; Gain(V/V): 0.1 to 100; Input Offset (+/-)(Max)(uV): 5000; Number of Channels: 1; Slew Rate(Typ)(V/us): 0.45; Vs(Max)(V): 36; Vs(Min)(V): 2.7; DatasheetVersion: SBOS109; PackageVersion: 4040047-3/M, 06/2011; PackageReference: D8; PackageDescription: 8-Pin Plastic Small Outline, Body 4.9 x 3.9 mm, Pitch 1.27 mm; Supplier 1: Digi-Key; Supplier Part Number 1: INA146UAE4-ND; Supplier 2: Mouser; Supplier Part Number 2: 595-INA146UAE4; Eco-Plan: Green (RoHS & no Sb/Br); SubFamily: Difference Amplifier; Mounting Technology: Surface Mount; Code_JEDEC: MS-012; ComponentLink1Description: Manufacturer URL; ComponentLink1URL: http://www.ti.com/; ComponentLink2Description: Datasheet; ComponentLink2URL: http://www.ti.com/general/docs/lit/getliterature.tsp?genericPartNumber=INA146&fileType=pdf; ComponentLink3Description: Package Specification; ComponentLink3URL: http://www.ti.com/litv/pdf/msoi002j
footprint TI-D8_N (SOIC, 8-Leads, Body 5x4mm, Pitch 1.27mm, IPC Medium Density)
footprint TI-D8_L (SOIC, 8-Leads, Body 5x4mm, Pitch 1.27mm, IPC High Density)
footprint TI-D8_M (SOIC, 8-Leads, Body 5x4mm, Pitch 1.27mm, IPC Low Density)
pins: 1 REF (in), 2 VIN- (in), 3 VIN+ (in), 4 V- (power), 5 RG (in), 6 VO (out), 7 V+ (power), 8 VO1 (out)

## INA148QDRQ1
designator U?
Automotive Catalog +/- 200 V Common-Mode Voltage Difference Amplifier, -40 to 125 degC, 8-pin SOIC (D8), Green (RoHS & no Sb/Br); Manufacturer: Texas Instruments; PartNumber: INA148QDRQ1; CMRR(Min)(dB): 70; Gain(V/V): 1; Input Offset (+/-)(Max)(uV): 5000; Vs(Max)(V): 36; Vs(Min)(V): 2.7; DatasheetVersion: SBOS472A; PackageVersion: 4040047-3/M, 06/2011; PackageReference: D8; PackageDescription: 8-Pin Plastic Small Outline, Body 4.9 x 3.9 mm, Pitch 1.27 mm; Supplier 1: Digi-Key; Supplier Part Number 1: 296-24492-2-ND; Supplier 2: Digi-Key; Supplier Part Number 2: 296-24492-1-ND; Supplier 3: Digi-Key; Supplier Part Number 3: 296-24492-6-ND; Supplier 4: Newark; Supplier Part Number 4: 09R4692; Supplier 5: Mouser; Supplier Part Number 5: 595-INA148QDRQ1; Eco-Plan: Green (RoHS & no Sb/Br); Number of Channels: 1; Slew Rate(Typ)(V/us): 1; SubFamily: Difference Amplifier; Mounting Technology: Surface Mount; Code_JEDEC: MS-012; ComponentLink1Description: Manufacturer URL; ComponentLink1URL: http://www.ti.com/; ComponentLink2Description: Datasheet; ComponentLink2URL: http://www.ti.com/general/docs/lit/getliterature.tsp?genericPartNumber=INA148-Q1&fileType=pdf; ComponentLink3Description: Package Specification; ComponentLink3URL: http://www.ti.com/litv/pdf/msoi002j
footprint TI-D8_N (SOIC, 8-Leads, Body 5x4mm, Pitch 1.27mm, IPC Medium Density)
footprint TI-D8_L (SOIC, 8-Leads, Body 5x4mm, Pitch 1.27mm, IPC High Density)
footprint TI-D8_M (SOIC, 8-Leads, Body 5x4mm, Pitch 1.27mm, IPC Low Density)
pins: 1 REF (in), 2 IN- (in), 3 IN+ (in), 4 V- (power), 5 NC, 6 OUT (out), 7 V+ (power), 8 NC

## INA148UA
designator U?
+/- 200 V Common-Mode Voltage Difference Amplifier, -40 to 85 degC, 8-pin SOIC (D8), Green (RoHS & no Sb/Br); Manufacturer: Texas Instruments; PartNumber: INA148UA; CMRR(Min)(dB): 70; Gain(V/V): 1; Input Offset (+/-)(Max)(uV): 5000; Vs(Max)(V): 36; Vs(Min)(V): 2.7; DatasheetVersion: SBOS123; PackageVersion: 4040047-3/M, 06/2011; PackageReference: D8; PackageDescription: 8-Pin Plastic Small Outline, Body 4.9 x 3.9 mm, Pitch 1.27 mm; Supplier 1: Digi-Key; Supplier Part Number 1: INA148UA-ND; Supplier 2: Newark; Supplier Part Number 2: 74K3816; Supplier 3: Mouser; Supplier Part Number 3: 595-INA148UA; Eco-Plan: Green (RoHS & no Sb/Br); Number of Channels: 1; Slew Rate(Typ)(V/us): 1; SubFamily: Difference Amplifier; Mounting Technology: Surface Mount; Code_JEDEC: MS-012; ComponentLink1Description: Manufacturer URL; ComponentLink1URL: http://www.ti.com/; ComponentLink2Description: Datasheet; ComponentLink2URL: http://www.ti.com/general/docs/lit/getliterature.tsp?genericPartNumber=INA148&fileType=pdf; ComponentLink3Description: Package Specification; ComponentLink3URL: http://www.ti.com/litv/pdf/msoi002j
footprint TI-D8_N (SOIC, 8-Leads, Body 5x4mm, Pitch 1.27mm, IPC Medium Density)
footprint TI-D8_L (SOIC, 8-Leads, Body 5x4mm, Pitch 1.27mm, IPC High Density)
footprint TI-D8_M (SOIC, 8-Leads, Body 5x4mm, Pitch 1.27mm, IPC Low Density)
pins: 1 REF (in), 2 IN- (in), 3 IN+ (in), 4 V- (power), 5 NC, 6 OUT (out), 7 V+ (power), 8 NC

## INA148UA/2K5
designator U?
+/- 200 V Common-Mode Voltage Difference Amplifier, -40 to 85 degC, 8-pin SOIC (D8), Green (RoHS & no Sb/Br); Manufacturer: Texas Instruments; PartNumber: INA148UA/2K5; CMRR(Min)(dB): 70; Gain(V/V): 1; Input Offset (+/-)(Max)(uV): 5000; Vs(Max)(V): 36; Vs(Min)(V): 2.7; DatasheetVersion: SBOS123; PackageVersion: 4040047-3/M, 06/2011; PackageReference: D8; PackageDescription: 8-Pin Plastic Small Outline, Body 4.9 x 3.9 mm, Pitch 1.27 mm; Supplier 1: Digi-Key; Supplier Part Number 1: 296-26062-2-ND; Supplier 2: Digi-Key; Supplier Part Number 2: 296-26062-1-ND; Supplier 3: Digi-Key; Supplier Part Number 3: 296-26062-6-ND; Supplier 4: Newark; Supplier Part Number 4: 74C9808; Supplier 5: Mouser; Supplier Part Number 5: 595-INA148UA/2K5; Eco-Plan: Green (RoHS & no Sb/Br); Number of Channels: 1; Slew Rate(Typ)(V/us): 1; SubFamily: Difference Amplifier; Mounting Technology: Surface Mount; Code_JEDEC: MS-012; ComponentLink1Description: Manufacturer URL; ComponentLink1URL: http://www.ti.com/; ComponentLink2Description: Datasheet; ComponentLink2URL: http://www.ti.com/general/docs/lit/getliterature.tsp?genericPartNumber=INA148&fileType=pdf; ComponentLink3Description: Package Specification; ComponentLink3URL: http://www.ti.com/litv/pdf/msoi002j
footprint TI-D8_N (SOIC, 8-Leads, Body 5x4mm, Pitch 1.27mm, IPC Medium Density)
footprint TI-D8_L (SOIC, 8-Leads, Body 5x4mm, Pitch 1.27mm, IPC High Density)
footprint TI-D8_M (SOIC, 8-Leads, Body 5x4mm, Pitch 1.27mm, IPC Low Density)
pins: 1 REF (in), 2 IN- (in), 3 IN+ (in), 4 V- (power), 5 NC, 6 OUT (out), 7 V+ (power), 8 NC